# EAGLE library part 760390013 (library WE-PP_TRANSFORMER)
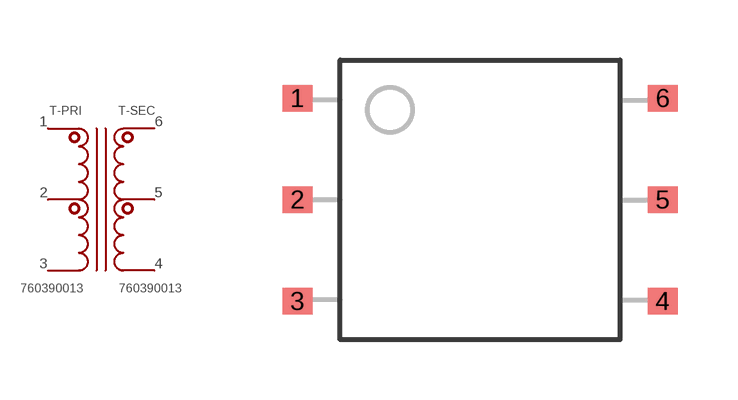
[diagram p1: symbol with the pads of 760390013; footprint 760390013]

Designator prefix T; gates -PRI=WE-PP-TRANSFORMER-PRI -SEC=WE-PP-TRANSFORMER-SEC

## 760390013 (MF: WURTH; MPN: 760390013)  [760390013]
1  -PRI:1
2  -PRI:2
3  -PRI:3
4  -SEC:4
5  -SEC:5
6  -SEC:6

## Footprint 760390013 (pad centres in mm)
smd 0.75 x 0.66: 1 -4.57,2.54; 2 -4.57,0; 3 -4.57,-2.54; 4 4.57,-2.54; 5 4.57,0; 6 4.57,2.54